# Altium schematic symbol library HeartbeatLibrary.SchLib: 5 symbols
Pins are listed as number, name and electrical type; pins without a type are passive.

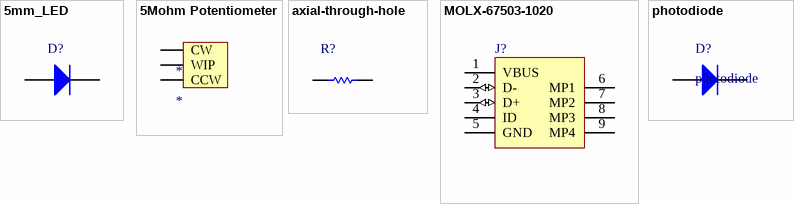
[diagram p0: symbols 5mm_LED to photodiode]

## 5mm_LED
designator D?
Manufacturer PN: TLHG6405
footprint 3mm_diode
pins: 1 A, 2 K

## 5Mohm Potentiometer
designator *
3296W-1-505LF; Manufacturer PN: 3296W-1-505LF
footprint 5k_pot (3296W-1-505LF)
pins: 1 CW, 2 WIP, 3 CCW

## axial-through-hole
designator R?
through-hole
footprint Axial_resistor (through-hole)
pins: 1, 2

## MOLX-67503-1020
designator J?
footprint MOLX-67503-1020_V (Mini USB Connector, SMT, Righer Angle)
pins: 1 VBUS (power), 2 D- (io), 3 D+ (io), 4 ID, 5 GND (power), 6 MP1, 7 MP2, 8 MP3, 9 MP4

## photodiode
designator D?
partnumber: *
footprint 3mm_diode
pins: 1 A, 2 K